# Altium footprint library SOD.PcbLib: 3 footprints
Each footprint in its own frame and in the unit in brackets; x right, y up, seen from the top. Pads: shape width x height; smd on the part's side, far side on the other; paste and mask are expansions set on the pad; w line width, h text height; cw(c..) or ccw(c..) is an arc to the next point about the centre after c.
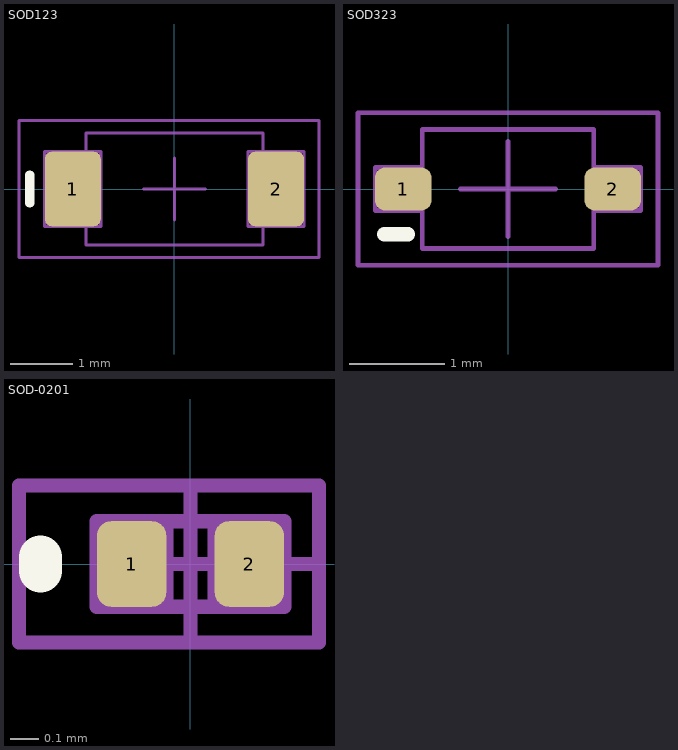
[diagram p0: the footprints below, top view; thin cyan lines are the x and y axes]

## SOD123 [mm] "SOD123"
height 1.35
pads (2):
  rrect25% 0.9x1.2 smd paste+0 mask+0.07: 1(-1.635,0) 2(1.635,0)
Top Overlay:
  lines w0.15: -2.325,-0.225 -2.325,0.225
Top Courtyard:
  lines w0.05: -0.5,0 0,0 ; 0,-0.5 0,0 ; 0,0.5 0,0 ; 0.5,0 0,0 ; -2.5,-1.1 -2.5,1.1 2.325,1.1 2.325,-1.1 -2.5,-1.1
Top Assembly:
  lines w0.05: -1.425,-0.501 -1.425,-0.9 1.425,-0.9 1.425,0.9 -1.425,0.9 -1.425,0.501 ; -2.085,-0.6 -1.185,-0.6 -1.185,0.6 -1.635,0.6 -2.085,0.6 -2.085,-0.6 ; 1.185,-0.6 2.085,-0.6 2.085,0.6 1.635,0.6 1.185,0.6 1.185,-0.6
  text "K" at -2.075,-0.6 h1.2
3D body "B5819W-TP.stp": height 1.26, standoff 0.01, extent -1.85,-0.85 1.85,0.85

## SOD323 [mm] "SOD323"
height 1
pads (2):
  rrect44% 0.59x0.45 smd paste+0 mask+0.05: 1(-1.1,0) 2(1.1,0)
Top Overlay:
  lines w0.15: -1.3,-0.475 -1.05,-0.475
Top Courtyard:
  lines w0.05: -0.5,0 0,0 ; 0,-0.5 0,0 ; 0,0.5 0,0 ; 0.5,0 0,0 ; -1.575,-0.8 1.575,-0.8 1.575,0.8 -1.575,0.8 -1.575,-0.8
Top Assembly:
  lines w0.05: -1.395,-0.225 -0.925,-0.225 -0.925,0.225 -1.395,0.225 -1.395,-0.225 ; -0.9,-0.625 0.9,-0.625 0.9,0.625 -0.9,0.625 -0.9,-0.625 ; 0.9,-0.225 1.15,-0.225 1.395,-0.225 1.395,0.225 1.15,0.225 0.9,0.225 0.9,-0.225
  text "K" at -1.395,-0.225 h0.4
3D body "Diode_onsemi_MM3Z30VST1G_eec.STEP": height 1.1, standoff 0, extent -1.25,-0.625 1.25,0.625

## SOD-0201 [mm] "DIODE 0201"
height 1
pads (2):
  rrect41% 0.243x0.3 smd paste+0 mask+0.05: 1(-0.206,0) 2(0.206,0)
Top Overlay:
  lines w0.15: -0.525,-0.025 -0.525,0.025
Top Courtyard:
  lines w0.05: -0.325,0 0,0 ; 0,-0.275 0,0 ; 0.45,0 0,0 ; 0,0 0,0.275 ; 0,0.275 0.45,0.275 0.45,-0.275 -0.6,-0.275 -0.6,0.275 0,0.275
Top Assembly:
  lines w0.05: -0.134,0.15 0.328,0.15 ; -0.084,0 -0.084,-0.15 ; -0.084,-0.15 0.085,-0.15 ; -0.084,-0.15 -0.206,-0.15 -0.327,-0.15 -0.327,0.15 -0.084,0.15 -0.084,-0.15 ; 0.085,-0.15 0.328,-0.15 0.328,0.15 ; 0.085,-0.15 0.085,0.15 0.206,0.15 0.328,0.15
  text "K" at -0.327,-0.15 h0.1
3D body "NSR02L30NXT5G.STEP": height 0.31, standoff 0.01, extent -0.3,-0.15 0.3,0.15